# Altium schematic symbol library LM2595.SchLib: 1 symbol
Pins are listed as number, name and electrical type; pins without a type are passive.

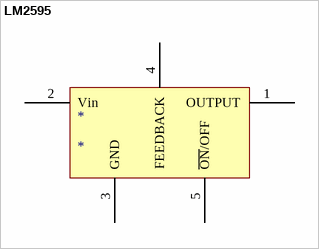
[diagram p0: symbol LM2595]

## LM2595
designator *
footprint D2PAK
pins: 1 OUTPUT, 2 Vin, 3 GND, 4 FEEDBACK, 5 ~{ON}/OFF